# EAGLE library part HIP4081A (library IC)
Intersil HIP4081A, 80V, 2.5A Full Bridge FET Driver
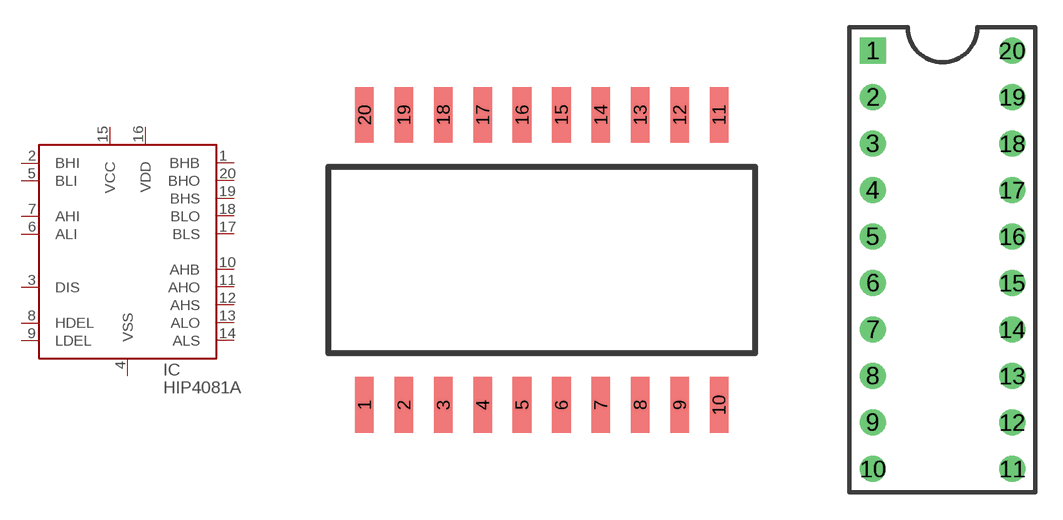
[diagram p120: symbol with the pads of SOIC20; footprints SOIC20, DIP-20C]

Designator prefix IC

## HIP4081AIB  [SOIC20]
1  BHB
2  BHI
3  DIS
4  VSS
5  BLI
6  ALI
7  AHI
8  HDEL
9  LDEL
10  AHB
11  AHO
12  AHS
13  ALO
14  ALS
15  VCC
16  VDD
17  BLS
18  BLO
19  BHS
20  BHO

## HIP4081AIP  [DIP-20C]
Pads as for SOIC20

## Footprint SOIC20 (pad centres in mm)
SOIC-20, 1.27mm pitch, 10.55mm width, 12.95mm length
smd 0.6 x 1.8: 1 -5.715,-4.679; 2 -4.445,-4.679; 3 -3.175,-4.679; 4 -1.905,-4.679; 5 -0.635,-4.679; 6 0.635,-4.679; 7 1.905,-4.679; 8 3.175,-4.679; 9 4.445,-4.679; 10 5.715,-4.679; 11 5.715,4.679; 12 4.445,4.679; 13 3.175,4.679; 14 1.905,4.679; 15 0.635,4.679; 16 -0.635,4.679; 17 -1.905,4.679; 18 -3.175,4.679; 19 -4.445,4.679; 20 -5.715,4.679

## Footprint DIP-20C (pad centres in mm)
drill 0.889 square: 1 -3.81,11.43
drill 0.889 round: 2 -3.81,8.89; 3 -3.81,6.35; 4 -3.81,3.81; 5 -3.81,1.27; 6 -3.81,-1.27; 7 -3.81,-3.81; 8 -3.81,-6.35; 9 -3.81,-8.89; 10 -3.81,-11.43; 11 3.81,-11.43; 12 3.81,-8.89; 13 3.81,-6.35; 14 3.81,-3.81; 15 3.81,-1.27; 16 3.81,1.27; 17 3.81,3.81; 18 3.81,6.35; 19 3.81,8.89; 20 3.81,11.43